# Altium integrated library XRCGB24M000F0L00R0.IntLib: 1 symbol
Pins are listed as number, name and electrical type; pins without a type are passive.

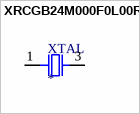
[diagram p0: symbol XRCGB24M000F0L00R0]

## XRCGB24M000F0L00R0
designator XTAL
24MHz Â±100ppm Crystal 6pF 150 Ohms 4-SMD, No Lead; MF: Murata; MP: XRCGB24M000F0L00R0; Digi-Key_Part_Number: 490-5575-1-ND; Value: *; SnapEDA_Link: https://www.snapeda.com/parts/XRCGB24M000F0L00R0/Murata%20Electronics%20North%20America/view-part/329553/?ref=snap; Package: SMD-4 Murata; Digi-Key_Purchase_URL: https://www.digikey.com/product-detail/en/murata-electronics/XRCGB24M000F0L00R0/490-5575-1-ND/2368389?utm_source=snapeda&utm_medium=aggregator&utm_campaign=symbol
footprint XTAL_XRCGB24M000F0L00R0
pins: 1, 3 2